# Altium footprint library 1.44inch_14pin_QD14414B.PcbLib: 1 footprints
Each footprint in its own frame and in the unit in brackets; x right, y up, seen from the top. Pads: shape width x height; smd on the part's side, far side on the other; paste and mask are expansions set on the pad; w line width, h text height; cw(c..) or ccw(c..) is an arc to the next point about the centre after c.
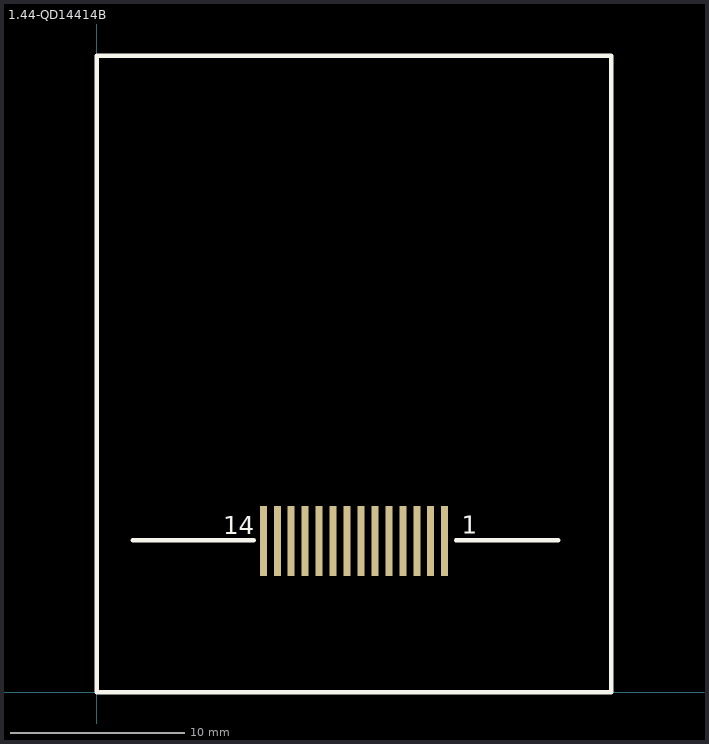
[diagram p0: the footprint, top view; thin cyan lines are the x and y axes]

## 1.44-QD14414B [mm] "1.44 TFT LCD"
pads (14):
  rect 0.4x4 smd: 1(19.95,8.666) 2(19.15,8.666) 3(18.35,8.666) 4(17.55,8.666) 5(16.75,8.666) 6(15.95,8.666) 7(15.15,8.666) 8(14.35,8.666) 9(13.55,8.666) 10(12.75,8.666) 11(11.95,8.666) 12(11.15,8.666) 13(10.35,8.666) 14(9.55,8.666)
Top Overlay:
  lines w0.254: 2.054,8.71 9,8.71 ; 20.6,8.71 26.464,8.71 ; 0,0 0,36.5 29.5,36.5 29.5,0 0,0
  text "1" at 20.922,9.078 h1.02
  text "14" at 7.259,9.063 h1.02